# EAGLE library part 59453-061110ECHLF (library 59453-061110ECHLF)
0.50mm Flex Connectors, FPC/FFC Side Entry ZIF Connector, Surface Mount, 6 Positions, Bottom Contact, 0.50mm (0.020in) Pitch. Source: Datasheet <https://cdn.amphenol-cs.com/media/wysiwyg/files/drawing/59453.pdf>
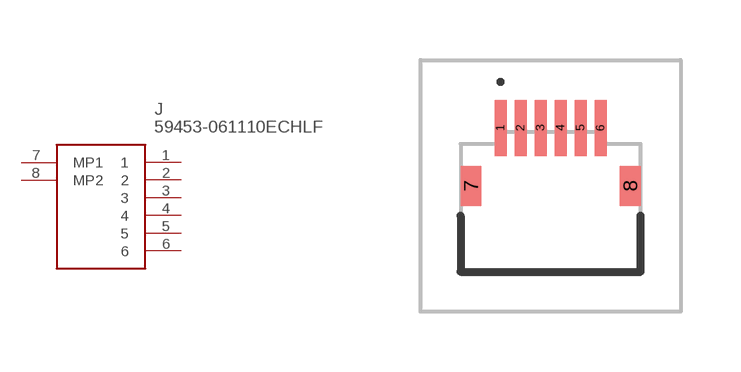
[diagram p0: symbol with the pads of 59453061110ECHLF; footprint 59453061110ECHLF]

Designator prefix J

## 59453-061110ECHLF (Description: 0.50mm Flex Connectors, FPC/FFC Side Entry ZIF Connector, Surface Mount, 6 Positions, Bottom Contact, 0.50mm (0.020in) Pitch.; Height: 1mm; Manufacturer_Name: Amphenol Communications Solutions; Manufacturer_Part_Number: 59453-061110ECHLF)  [59453061110ECHLF]
1  1
2  2
3  3
4  4
5  5
6  6
7  MP1
8  MP2

## Footprint 59453061110ECHLF (pad centres in mm)
59453-061110ECHLF-2
smd 0.3 x 1.4: 1 -1.25,1.8; 2 -0.75,1.8; 3 -0.25,1.8; 4 0.25,1.8; 5 0.75,1.8; 6 1.25,1.8
smd 0.52 x 1: 7 -1.99,0.35; 8 1.99,0.35